# Altium schematic symbol library nemidinam.SchLib: 1 symbol
Pins are listed as number, name and electrical type; pins without a type are passive.

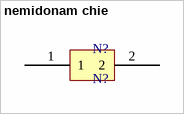
[diagram p0: symbol nemidonam chie]

## nemidonam chie
designator N?, comment N?
pins: 1, 2